# EAGLE library part ANALOG-DEVICES2_ADUM3150 (library main)
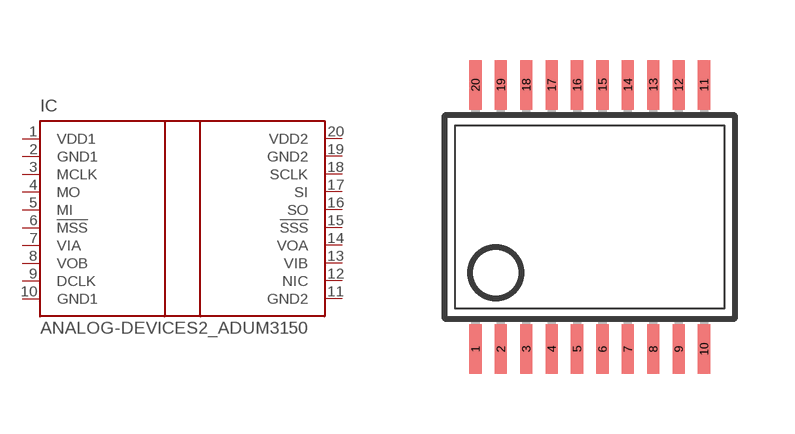
[diagram p3: symbol with the pads of ANALOG-DEVICES2_SSOP20; footprint ANALOG-DEVICES2_SSOP20]

Designator prefix IC

## ANALOG-DEVICES2_ADUM3150  [ANALOG-DEVICES2_SSOP20]
1  VDD1  pwr
2  GND1  pwr
3  MCLK
4  MO
5  MI
6  !MSS
7  VIA
8  VOB
9  DCLK
10  GND1  pwr
11  GND2  pwr
12  NIC
13  VIB
14  VOA
15  !SSS  in
16  SO
17  SI
18  SCLK
19  GND2  pwr
20  VDD2  pwr

## Footprint ANALOG-DEVICES2_SSOP20 (pad centres in mm)
Small Shrink Outline Package
smd 0.305 x 1.245: 1 -2.857,-3.302; 2 -2.222,-3.302; 3 -1.587,-3.302; 4 -0.952,-3.302; 5 -0.317,-3.302; 6 0.318,-3.302; 7 0.953,-3.302; 8 1.588,-3.302; 9 2.223,-3.302; 10 2.858,-3.302; 11 2.858,3.302; 12 2.223,3.302; 13 1.588,3.302; 14 0.953,3.302; 15 0.318,3.302; 16 -0.317,3.302; 17 -0.952,3.302; 18 -1.587,3.302; 19 -2.222,3.302; 20 -2.857,3.302